# EAGLE library part LX9 (library sparten6-lx9)
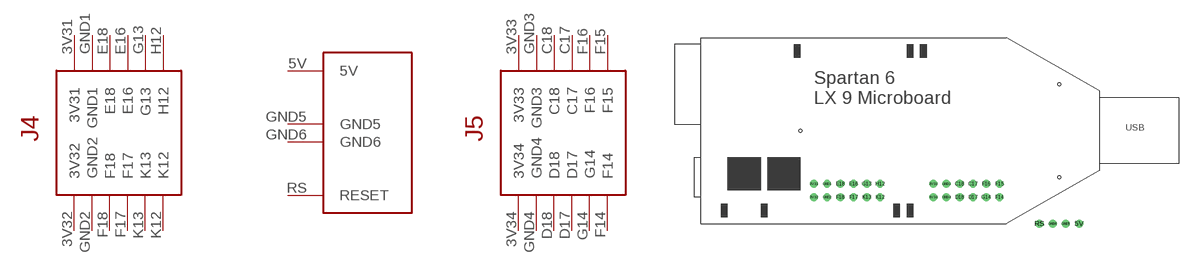
[diagram p0: symbol with the pads of LX9; footprint LX9]

Designator prefix -; gates G$1=PWR-RESET G$2=J4 G$3=J5

## LX9  [LX9]
3V31  G$2:3V31
3V32  G$2:3V32
3V33  G$3:3V33
3V34  G$3:3V34
5V  G$1:5V
C17  G$3:C17
C18  G$3:C18
D17  G$3:D17
D18  G$3:D18
E16  G$2:E16
E18  G$2:E18
F14  G$3:F14
F15  G$3:F15
F16  G$3:F16
F17  G$2:F17
F18  G$2:F18
G13  G$2:G13
G14  G$3:G14
GND1  G$2:GND1
GND2  G$2:GND2
GND3  G$3:GND3
GND4  G$3:GND4
GND5  G$1:GND5
GND6  G$1:GND6
H12  G$2:H12
K12  G$2:K12
K13  G$2:K13
RS  G$1:RESET

## Footprint LX9 (pad centres in mm)
drill 1: 3V31 21.59,-10.16; 3V32 21.59,-12.7; 3V33 44.45,-10.16; 3V34 44.45,-12.7; C17 52.07,-10.16; C18 49.53,-10.16; D17 52.07,-12.7; D18 49.53,-12.7; E16 29.21,-10.16; E18 26.67,-10.16; F14 57.15,-12.7; F15 57.15,-10.16; F16 54.61,-10.16; F17 29.21,-12.7; F18 26.67,-12.7; G13 31.75,-10.16; G14 54.61,-12.7; GND1 24.13,-10.16; GND2 24.13,-12.7; GND3 46.99,-10.16; GND4 46.99,-12.7; H12 34.29,-10.16; K12 34.29,-12.7; K13 31.75,-12.7
drill 1 pad 1.27: 5V 72.39,-17.78; GND5 69.85,-17.78; GND6 67.31,-17.78; RS 64.77,-17.78
hole 0.6 at 19.05,0
hole 0.6 at 68.58,8.89
hole 0.6 at 68.58,-8.89